# Altium footprint library 0533980571.PcbLib: 1 footprints
Each footprint in its own frame and in the unit in brackets; x right, y up, seen from the top. Pads: shape width x height; smd on the part's side, far side on the other; paste and mask are expansions set on the pad; w line width, h text height; cw(c..) or ccw(c..) is an arc to the next point about the centre after c.
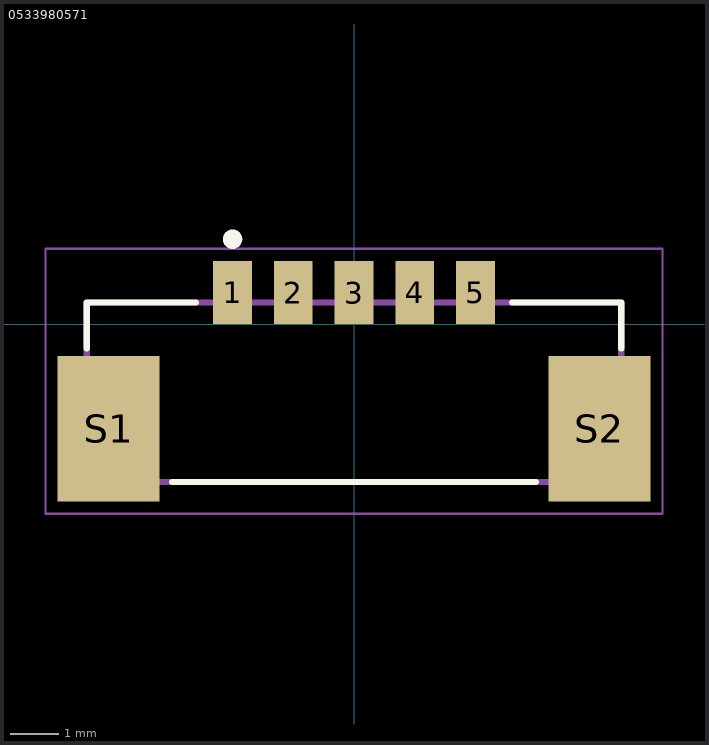
[diagram p0: the footprint, top view; thin cyan lines are the x and y axes]

## 0533980571 [mm]
pads (7):
  rect 0.8x1.3 smd: 1(-2.5,0.65) 2(-1.25,0.65) 3(0,0.65) 4(1.25,0.65) 5(2.5,0.65)
  rect 2.1x3 smd: S1(-5.05,-2.15) S2(5.05,-2.15)
Top Overlay:
  circle w0.2: c-2.5,1.75 r0.1
  lines w0.127: -5.5,-0.5 -5.5,0.45 -3.25,0.45 ; -3.75,-3.25 3.75,-3.25 ; 3.25,0.45 5.5,0.45 5.5,-0.5
Top 3D Body:
  lines w0.127: -5.5,-3.25 5.5,-3.25 5.5,0.45 -5.5,0.45 -5.5,-3.25
Top Courtyard:
  lines w0.05: -6.35,-3.9 6.35,-3.9 6.35,1.55 -6.35,1.55 -6.35,-3.9
3D body "0533980571.STEP": height 4.67, standoff -0.07, extent -5.7,-3.25 5.7,0.95